# Altium schematic symbol library RES,4m,1%,3W,2512.Schlib: 1 symbol
Pins are listed as number, name and electrical type; pins without a type are passive.

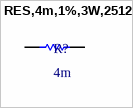
[diagram p0: symbol RES,4m,1%,3W,2512]

## RES,4m,1%,3W,2512
designator R?, comment 4m
RES 0.004 OHM 1% 3W 2512
pins: 1, 2